# EAGLE library part OLIMEX_CONNECTORS_MINI_USB9 (library A10-A20-OLINUXINO-MICRO-4GB_Rev_D)
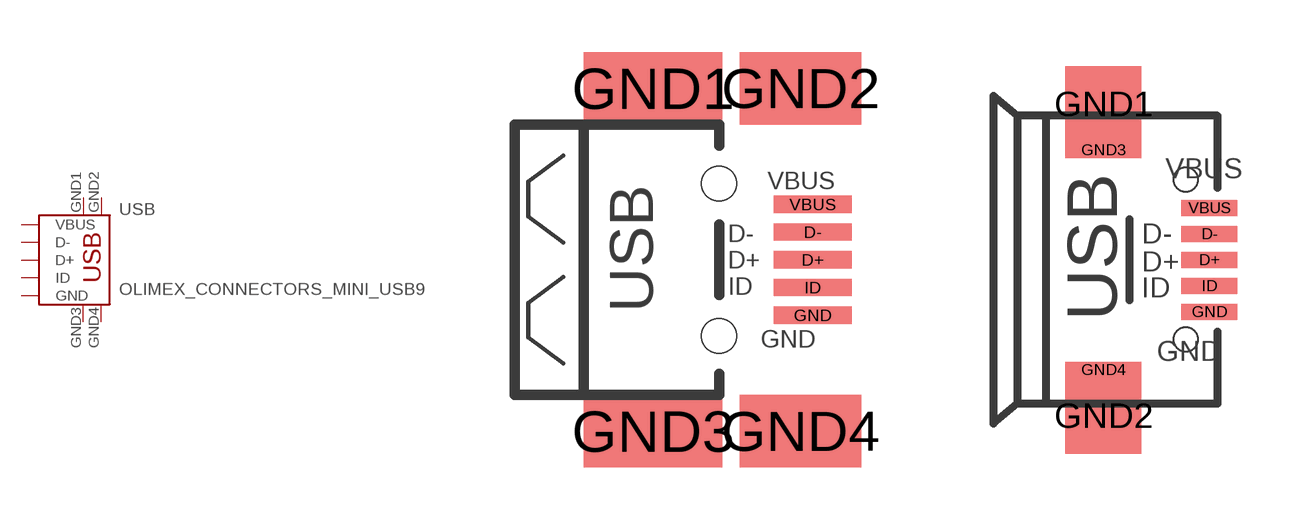
[diagram p3: symbol with the pads of OLIMEX_CONNECTORS_USB_MINI_9PIN; footprints OLIMEX_CONNECTORS_USB_MINI_9PIN, OLIMEX_CONNECTORS_MISB-SW-5AB-LF]

Designator prefix USB

## OLIMEX_CONNECTORS_MINI_USB9  [OLIMEX_CONNECTORS_USB_MINI_9PIN]
D+  D+  in
D-  D-  in
GND  GND  pwr
GND1  GND1  in
GND2  GND2  in
GND3  GND3  in
GND4  GND4  in
ID  ID  in
VBUS  VBUS  pwr

## OLIMEX_CONNECTORS_MINI_USB9MISB-SW-5AB-LF  [OLIMEX_CONNECTORS_MISB-SW-5AB-LF]
Pads as for OLIMEX_CONNECTORS_USB_MINI_9PIN

## Footprint OLIMEX_CONNECTORS_USB_MINI_9PIN (pad centres in mm)
smd 2.25 x 0.5: D+ 2.706,0; D- 2.706,0.8; GND 2.706,-1.6; ID 2.706,-0.8; VBUS 2.706,1.6
smd 4 x 2.1: GND1 -1.9,4.95; GND3 -1.9,-4.95
smd 3.5 x 2.1: GND2 2.35,4.95; GND4 2.35,-4.95
hole 1 at 0,2.2
hole 1 at 0,-2.2

## Footprint OLIMEX_CONNECTORS_MISB-SW-5AB-LF (pad centres in mm)
smd 1.4 x 0.4: D+ 4.1,0; D- 4.1,0.65; GND 4.1,-1.3; ID 4.1,-0.65; VBUS 4.1,1.3
smd 1.9 x 1.9: GND1 1.45,3.9; GND2 1.45,-3.9
smd 1.9 x 0.4: GND3 1.45,2.75; GND4 1.45,-2.75
hole 0.6 at 3.5,-2
hole 0.6 at 3.5,2